# EAGLE library part NRPN11 (library con-sullins-nrpn)
HEADER
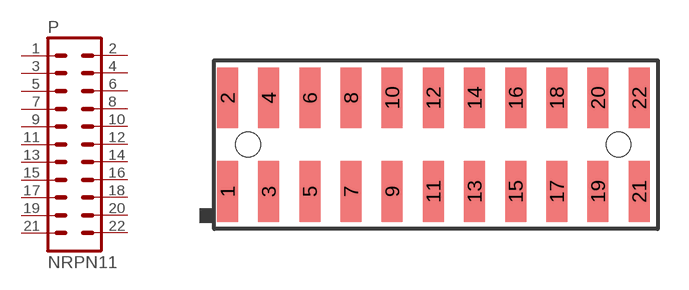
[diagram p8: symbol with the pads of NRPN11; footprint NRPN11]

Designator prefix P

## NRPN11  [NRPN11]
1  1  pas
2  2  pas
3  3  pas
4  4  pas
5  5  pas
6  6  pas
7  7  pas
8  8  pas
9  9  pas
10  10  pas
11  11  pas
12  12  pas
13  13  pas
14  14  pas
15  15  pas
16  16  pas
17  17  pas
18  18  pas
19  19  pas
20  20  pas
21  21  pas
22  22  pas

## Footprint NRPN11 (pad centres in mm)
HEADER
smd 1.02 x 2.95: 1 -10,-2.275; 2 -10,2.275; 3 -8,-2.275; 4 -8,2.275; 5 -6,-2.275; 6 -6,2.275; 7 -4,-2.275; 8 -4,2.275; 9 -2,-2.275; 10 -2,2.275; 11 0,-2.275; 12 0,2.275; 13 2,-2.275; 14 2,2.275; 15 4,-2.275; 16 4,2.275; 17 6,-2.275; 18 6,2.275; 19 8,-2.275; 20 8,2.275; 21 10,-2.275; 22 10,2.275
hole 1.2 at -9,0
hole 1.2 at 9,0